# Altium schematic symbol library STM32L451VCI6.SchLib: 1 symbol
Pins are listed as number, name and electrical type; pins without a type are passive.

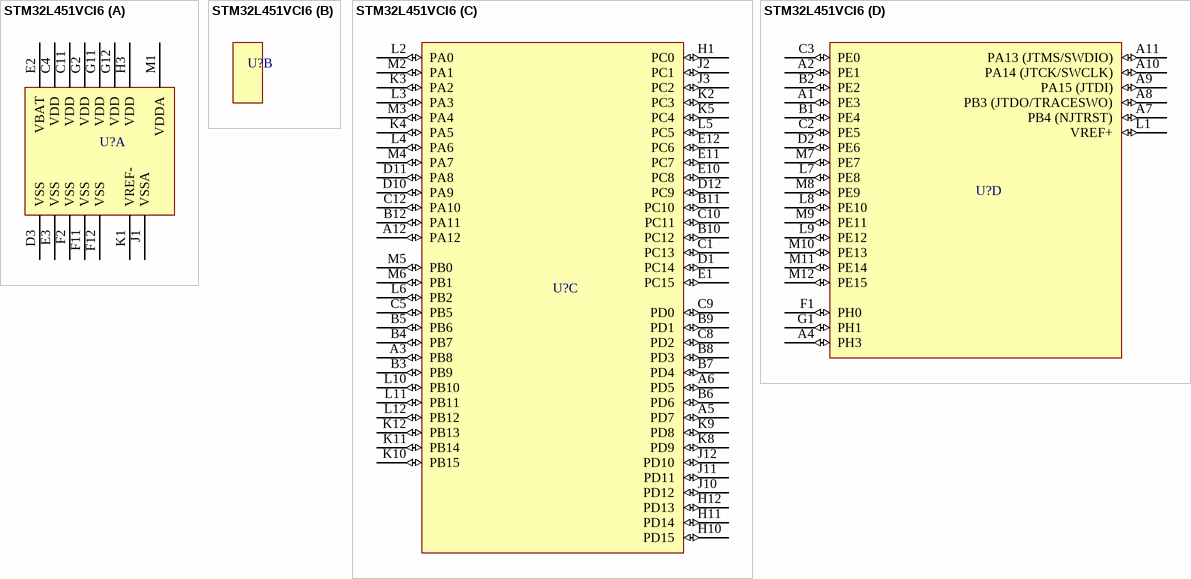
[diagram p0: symbol STM32L451VCI6]

## STM32L451VCI6
designator U?  (value not drawn)
Ultra-low-power with FPU Arm Cortex-M4 MCU 80 MHz with 256 kbytes of Flash memory, DFSDM
part A pins: C4 VDD (power), C11 VDD (power), D3 VSS (power), E2 VBAT (power), E3 VSS (power), F2 VSS (power), F11 VSS (power), F12 VSS (power), G2 VDD (power), G11 VDD (power), G12 VDD (power), H3 VDD (power), J1 VSSA (power), K1 VREF- (power), M1 VDDA (power)
part C pins: A3 PB8 (io), A5 PD7 (io), A6 PD5 (io), A12 PA12 (io), B3 PB9 (io), B4 PB7 (io), B5 PB6 (io), B6 PD6 (io), B7 PD4 (io), B8 PD3 (io), B9 PD1 (io), B10 PC12 (io), B11 PC10 (io), B12 PA11 (io), C1 PC13 (io), C5 PB5 (io), C8 PD2 (io), C9 PD0 (io), C10 PC11 (io), C12 PA10 (io), D1 PC14 (io), D10 PA9 (io), D11 PA8 (io), D12 PC9 (io), E1 PC15 (io), E10 PC8 (io), E11 PC7 (io), E12 PC6 (io), H1 PC0 (io), H10 PD15 (io), H11 PD14 (io), H12 PD13 (io), J2 PC1 (io), J3 PC2 (io), J10 PD12 (io), J11 PD11 (io), J12 PD10 (io), K2 PC3 (io), K3 PA2 (io), K4 PA5 (io), K5 PC4 (io), K8 PD9 (io), K9 PD8 (io), K10 PB15 (io), K11 PB14 (io), K12 PB13 (io), L2 PA0 (io), L3 PA3 (io), L4 PA6 (io), L5 PC5 (io), L6 PB2 (io), L10 PB10 (io), L11 PB11 (io), L12 PB12 (io), M2 PA1 (io), M3 PA4 (io), M4 PA7 (io), M5 PB0 (io), M6 PB1 (io)
part D pins: A1 PE3 (io), A2 PE1 (io), A4 PH3 (io), A7 PB4 (NJTRST) (io), A8 PB3 (JTDO/TRACESWO) (io), A9 PA15 (JTDI) (io), A10 PA14 (JTCK/SWCLK) (io), A11 PA13 (JTMS/SWDIO) (io), B1 PE4 (io), B2 PE2 (io), C2 PE5 (io), C3 PE0 (io), D2 PE6 (io), F1 PH0 (io), G1 PH1 (io), L1 VREF+ (io), L7 PE8 (io), L8 PE10 (io), L9 PE12 (io), M7 PE7 (io), M8 PE9 (io), M9 PE11 (io), M10 PE13 (io), M11 PE14 (io), M12 PE15 (io)